# Altium schematic symbol library kmilo17pet-Maxim_Sensors.SchLib: 1172 symbols (part 25 of 61)
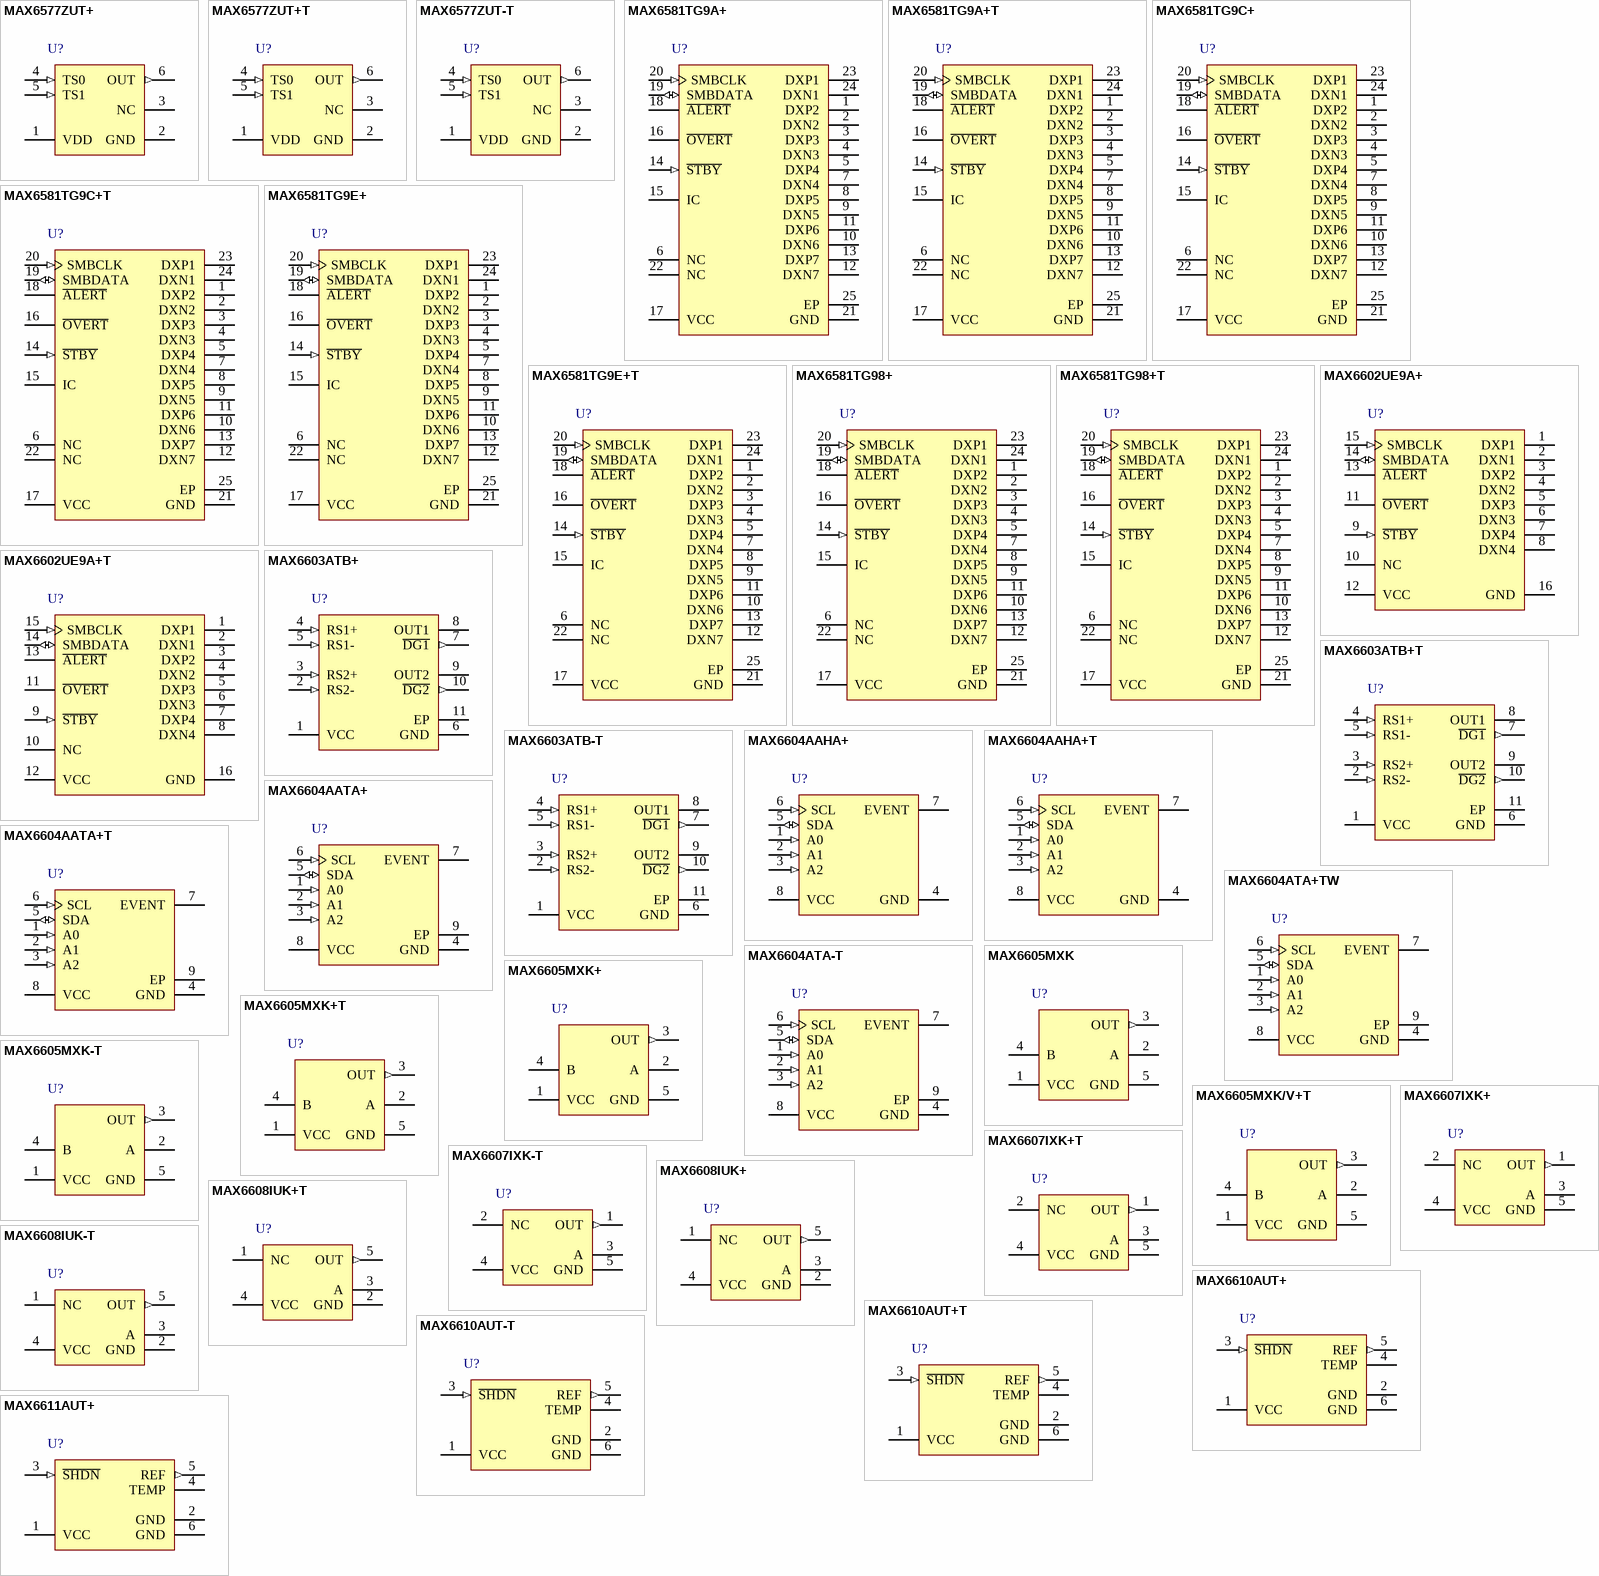
[diagram p57: symbols MAX6577ZUT+ to MAX6611AUT+]

## MAX6607IXK+T
designator U?
Low-Voltage Analog Temperature Sensor, -20 to 85 degC, 5-Pin SOT23 (X5+1), Pb-Free, Tape and Reel; Generic Part Number: MAX6607; PartNumber: MAX6607IXK+T; Parasite Pwr.: No; DatasheetVersion: Rev. 1; PackageVersion: Rev. F, 06/2011; PackageReference: X5+1; PackageDescription: 5-Pin SC70 Transistor Package (X5+1), Body 2 x 1.25 mm, Pitch 0.65 mm; Supplier 1: Digi-Key; Supplier Part Number 1: MAX6607IXK+T-ND; Supplier 2: Mouser; Supplier Part Number 2: 700-MAX6607IXKT; Interface: Analog; Packing: Tape and Reel; Mounting Technology: Surface Mount; Code_JEDEC: MO-203; ComponentLink1Description: Manufacturer URL; ComponentLink1URL: http://www.maximintegrated.com/; ComponentLink2Description: Datasheet; ComponentLink2URL: http://datasheets.maximintegrated.com/en/ds/MAX6607-MAX6608.pdf; ComponentLink3Description: Package Specification; ComponentLink3URL: http://pdfserv.maximintegrated.com/package_dwgs/21-0076.PDF
footprint MAXM-X5+1_N (SOT23, 5-Leads, Body 2x1.25mm, Pitch 0.65mm, IPC Medium Density)
footprint MAXM-X5+1_L (SOT23, 5-Leads, Body 2x1.25mm, Pitch 0.65mm, IPC High Density)
footprint MAXM-X5+1_M (SOT23, 5-Leads, Body 2x1.25mm, Pitch 0.65mm, IPC Low Density)
pins: 1 OUT (out) "Temperature Sensor Output", 2 NC "Not Connected", 3 A (power) "Must be connected to GND.", 4 VCC (power) "Supply Input. Decouple with a 0.1uF capacitor to GND.", 5 GND (power) "Ground"

## MAX6607IXK-T
designator U?
Low-Voltage Analog Temperature Sensor, -20 to 85 degC, 5-Pin SOT23 (X5-1), Tape and Reel; Generic Part Number: MAX6607; PartNumber: MAX6607IXK-T; Parasite Pwr.: No; DatasheetVersion: Rev. 1; PackageVersion: Rev. F, 06/2011; PackageReference: X5-1; PackageDescription: 5-Pin SC70 Transistor Package (X5-1), Body 2 x 1.25 mm, Pitch 0.65 mm; Supplier 1: Mouser; Supplier Part Number 1: N/A; Interface: Analog; Packing: Tape and Reel; Mounting Technology: Surface Mount; Code_JEDEC: MO-203; ComponentLink1Description: Manufacturer URL; ComponentLink1URL: http://www.maximintegrated.com/; ComponentLink2Description: Datasheet; ComponentLink2URL: http://datasheets.maximintegrated.com/en/ds/MAX6607-MAX6608.pdf; ComponentLink3Description: Package Specification; ComponentLink3URL: http://pdfserv.maximintegrated.com/package_dwgs/21-0076.PDF
footprint MAXM-X5-1_N (SOT23, 5-Leads, Body 2x1.25mm, Pitch 0.65mm, IPC Medium Density)
footprint MAXM-X5-1_L (SOT23, 5-Leads, Body 2x1.25mm, Pitch 0.65mm, IPC High Density)
footprint MAXM-X5-1_M (SOT23, 5-Leads, Body 2x1.25mm, Pitch 0.65mm, IPC Low Density)
pins: 1 OUT (out) "Temperature Sensor Output", 2 NC "Not Connected", 3 A (power) "Must be connected to GND.", 4 VCC (power) "Supply Input. Decouple with a 0.1uF capacitor to GND.", 5 GND (power) "Ground"

## MAX6608IUK+
designator U?
Low-Voltage Analog Temperature Sensor, -20 to 85 degC, 5-Pin SOT23 (U5+2), Pb-Free; Generic Part Number: MAX6608; PartNumber: MAX6608IUK+; Parasite Pwr.: No; DatasheetVersion: Rev. 1; PackageVersion: Rev. G, 04/2011; PackageReference: U5+2; PackageDescription: 5-Pin Small-Outline Transistor Package, Body 1.625 x 2.9 mm, Pitch 0.95 mm; Supplier 1: Mouser; Supplier Part Number 1: N/A; Interface: Analog; Mounting Technology: Surface Mount; Code_JEDEC: MO178; ComponentLink1Description: Manufacturer URL; ComponentLink1URL: http://www.maximintegrated.com/; ComponentLink2Description: Datasheet; ComponentLink2URL: http://datasheets.maximintegrated.com/en/ds/MAX6607-MAX6608.pdf; ComponentLink3Description: Package Specification; ComponentLink3URL: http://pdfserv.maximintegrated.com/package_dwgs/21-0057.PDF
footprint MAXM-U5+2_N (SOT23, 5-Leads, Body 2.9x1.625mm, Pitch 0.95mm, IPC Medium Density)
footprint MAXM-U5+2_L (SOT23, 5-Leads, Body 2.9x1.625mm, Pitch 0.95mm, IPC High Density)
footprint MAXM-U5+2_M (SOT23, 5-Leads, Body 2.9x1.625mm, Pitch 0.95mm, IPC Low Density)
pins: 1 NC "Not Connected", 2 GND (power) "Ground", 3 A (power) "Must be connected to GND.", 4 VCC (power) "Supply Input. Decouple with a 0.1uF capacitor to GND.", 5 OUT (out) "Temperature Sensor Output"

## MAX6608IUK+T
designator U?
Low-Voltage Analog Temperature Sensor, -20 to 85 degC, 5-Pin SOT23 (U5+2), Pb-Free, Tape and Reel; Generic Part Number: MAX6608; PartNumber: MAX6608IUK+T; Parasite Pwr.: No; DatasheetVersion: Rev. 1; PackageVersion: Rev. G, 04/2011; PackageReference: U5+2; PackageDescription: 5-Pin Small-Outline Transistor Package, Body 1.625 x 2.9 mm, Pitch 0.95 mm; Supplier 1: Digi-Key; Supplier Part Number 1: MAX6608IUK+T-ND; Supplier 2: Mouser; Supplier Part Number 2: 700-MAX6608IUKT; Interface: Analog; Packing: Tape and Reel; Mounting Technology: Surface Mount; Code_JEDEC: MO178; ComponentLink1Description: Manufacturer URL; ComponentLink1URL: http://www.maximintegrated.com/; ComponentLink2Description: Datasheet; ComponentLink2URL: http://datasheets.maximintegrated.com/en/ds/MAX6607-MAX6608.pdf; ComponentLink3Description: Package Specification; ComponentLink3URL: http://pdfserv.maximintegrated.com/package_dwgs/21-0057.PDF
footprint MAXM-U5+2_N (SOT23, 5-Leads, Body 2.9x1.625mm, Pitch 0.95mm, IPC Medium Density)
footprint MAXM-U5+2_L (SOT23, 5-Leads, Body 2.9x1.625mm, Pitch 0.95mm, IPC High Density)
footprint MAXM-U5+2_M (SOT23, 5-Leads, Body 2.9x1.625mm, Pitch 0.95mm, IPC Low Density)
pins: 1 NC "Not Connected", 2 GND (power) "Ground", 3 A (power) "Must be connected to GND.", 4 VCC (power) "Supply Input. Decouple with a 0.1uF capacitor to GND.", 5 OUT (out) "Temperature Sensor Output"

## MAX6608IUK-T
designator U?
Low-Voltage Analog Temperature Sensor, -20 to 85 degC, 5-Pin SOT23 (U5-2), Tape and Reel; Generic Part Number: MAX6608; PartNumber: MAX6608IUK-T; Parasite Pwr.: No; DatasheetVersion: Rev. 1; PackageVersion: Rev. G, 04/2011; PackageReference: U5-2; PackageDescription: 5-Pin Small-Outline Transistor Package, Body 1.625 x 2.9 mm, Pitch 0.95 mm; Supplier 1: Mouser; Supplier Part Number 1: N/A; Interface: Analog; Packing: Tape and Reel; Mounting Technology: Surface Mount; Code_JEDEC: MO-178; ComponentLink1Description: Manufacturer URL; ComponentLink1URL: http://www.maximintegrated.com/; ComponentLink2Description: Datasheet; ComponentLink2URL: http://datasheets.maximintegrated.com/en/ds/MAX6607-MAX6608.pdf; ComponentLink3Description: Package Specification; ComponentLink3URL: http://pdfserv.maximintegrated.com/package_dwgs/21-0057.PDF
footprint MAXM-U5-2_N (SOT23, 5-Leads, Body 2.9x1.625mm, Pitch 0.95mm, IPC Medium Density)
footprint MAXM-U5-2_L (SOT23, 5-Leads, Body 2.9x1.625mm, Pitch 0.95mm, IPC High Density)
footprint MAXM-U5-2_M (SOT23, 5-Leads, Body 2.9x1.625mm, Pitch 0.95mm, IPC Low Density)
pins: 1 NC "Not Connected", 2 GND (power) "Ground", 3 A (power) "Must be connected to GND.", 4 VCC (power) "Supply Input. Decouple with a 0.1uF capacitor to GND.", 5 OUT (out) "Temperature Sensor Output"

## MAX6610AUT+
designator U?
Precision, Low-Power, Temperature Sensor and Voltage Reference, -40 to 125 degC, 6-Pin SOT23 (U6+4), Pb-Free; Generic Part Number: MAX6610; PartNumber: MAX6610AUT+; Interface: Analog; Parasite Pwr.: No; DatasheetVersion: Rev. 2; PackageVersion: Rev. N, 08/2012; PackageReference: U6+4; PackageDescription: 6-Pin Small-Outline Transistor Package, Body 1.625 x 2.9 mm, Pitch 0.95 mm; Supplier 1: Mouser; Supplier Part Number 1: N/A; Functions: Voltage Reference; Mounting Technology: Surface Mount; Code_JEDEC: MO-178; ComponentLink1Description: Manufacturer URL; ComponentLink1URL: http://www.maximintegrated.com/; ComponentLink2Description: Datasheet; ComponentLink2URL: http://datasheets.maximintegrated.com/en/ds/MAX6610-MAX6611.pdf; ComponentLink3Description: Package Specification; ComponentLink3URL: http://pdfserv.maximintegrated.com/package_dwgs/21-0058.PDF
footprint MAXM-U6+4_N (SOT23, 6-Leads, Body 2.9x1.625mm, Pitch 0.95mm, IPC Medium Density)
footprint MAXM-U6+4_L (SOT23, 6-Leads, Body 2.9x1.625mm, Pitch 0.95mm, IPC High Density)
footprint MAXM-U6+4_M (SOT23, 6-Leads, Body 2.9x1.625mm, Pitch 0.95mm, IPC Low Density)
pins: 1 VCC (power) "Supply Voltage Input. Bypass to GND with a 0.1uF capacitor.", 2 GND (power) "Ground", 3 ~{SHDN} (in) "Logic Level Shutdown Input (Active Low). Driving S\H\D\N\ with a logic low turns off internal circuitry to reduce supply current to 1uA (max).", 4 TEMP (hiz) "Temperature Output Pin. Voltage at TEMP varies linearly with temperature", 5 REF (out) "Reference Voltage Output", 6 GND (power) "Must be connected to pin 2."

## MAX6610AUT+T
designator U?
Precision, Low-Power, Temperature Sensor and Voltage Reference, -40 to 125 degC, 6-Pin SOT23 (U6+4), Pb-Free, Tape and Reel; Generic Part Number: MAX6610; PartNumber: MAX6610AUT+T; Interface: Analog; Parasite Pwr.: No; DatasheetVersion: Rev. 2; PackageVersion: Rev. N, 08/2012; PackageReference: U6+4; PackageDescription: 6-Pin Small-Outline Transistor Package, Body 1.625 x 2.9 mm, Pitch 0.95 mm; Supplier 1: Digi-Key; Supplier Part Number 1: MAX6610AUT+TTR-ND; Supplier 2: Digi-Key; Supplier Part Number 2: MAX6610AUT+TCT-ND; Supplier 3: Digi-Key; Supplier Part Number 3: MAX6610AUT+TDKR-ND; Supplier 4: Farnell; Supplier Part Number 4: 1569959; Supplier 5: Newark; Supplier Part Number 5: 26R6557; Supplier 6: Mouser; Supplier Part Number 6: 700-MAX6610AUTT; Functions: Voltage Reference; Packing: Tape and Reel; Mounting Technology: Surface Mount; Code_JEDEC: MO-178; ComponentLink1Description: Manufacturer URL; ComponentLink1URL: http://www.maximintegrated.com/; ComponentLink2Description: Datasheet; ComponentLink2URL: http://datasheets.maximintegrated.com/en/ds/MAX6610-MAX6611.pdf; ComponentLink3Description: Package Specification; ComponentLink3URL: http://pdfserv.maximintegrated.com/package_dwgs/21-0058.PDF
footprint MAXM-U6+4_N (SOT23, 6-Leads, Body 2.9x1.625mm, Pitch 0.95mm, IPC Medium Density)
footprint MAXM-U6+4_L (SOT23, 6-Leads, Body 2.9x1.625mm, Pitch 0.95mm, IPC High Density)
footprint MAXM-U6+4_M (SOT23, 6-Leads, Body 2.9x1.625mm, Pitch 0.95mm, IPC Low Density)
pins: 1 VCC (power) "Supply Voltage Input. Bypass to GND with a 0.1uF capacitor.", 2 GND (power) "Ground", 3 ~{SHDN} (in) "Logic Level Shutdown Input (Active Low). Driving S\H\D\N\ with a logic low turns off internal circuitry to reduce supply current to 1uA (max).", 4 TEMP (hiz) "Temperature Output Pin. Voltage at TEMP varies linearly with temperature", 5 REF (out) "Reference Voltage Output", 6 GND (power) "Must be connected to pin 2."

## MAX6610AUT-T
designator U?
Precision, Low-Power, Temperature Sensor and Voltage Reference, -40 to 125 degC, 6-Pin SOT23 (U6-4), Tape and Reel; Generic Part Number: MAX6610; PartNumber: MAX6610AUT-T; Interface: Analog; Parasite Pwr.: No; DatasheetVersion: Rev. 2; PackageVersion: Rev. N, 08/2012; PackageReference: U6-4; PackageDescription: 6-Pin Small-Outline Transistor Package, Body 1.625 x 2.9 mm, Pitch 0.95 mm; Supplier 1: Mouser; Supplier Part Number 1: N/A; Functions: Voltage Reference; Packing: Tape and Reel; Mounting Technology: Surface Mount; Code_JEDEC: MO-178; ComponentLink1Description: Manufacturer URL; ComponentLink1URL: http://www.maximintegrated.com/; ComponentLink2Description: Datasheet; ComponentLink2URL: http://datasheets.maximintegrated.com/en/ds/MAX6610-MAX6611.pdf; ComponentLink3Description: Package Specification; ComponentLink3URL: http://pdfserv.maximintegrated.com/package_dwgs/21-0058.PDF
footprint MAXM-U6-4_N (SOT23, 6-Leads, Body 2.9x1.625mm, Pitch 0.95mm, IPC Medium Density)
footprint MAXM-U6-4_L (SOT23, 6-Leads, Body 2.9x1.625mm, Pitch 0.95mm, IPC High Density)
footprint MAXM-U6-4_M (SOT23, 6-Leads, Body 2.9x1.625mm, Pitch 0.95mm, IPC Low Density)
pins: 1 VCC (power) "Supply Voltage Input. Bypass to GND with a 0.1uF capacitor.", 2 GND (power) "Ground", 3 ~{SHDN} (in) "Logic Level Shutdown Input (Active Low). Driving S\H\D\N\ with a logic low turns off internal circuitry to reduce supply current to 1uA (max).", 4 TEMP (hiz) "Temperature Output Pin. Voltage at TEMP varies linearly with temperature", 5 REF (out) "Reference Voltage Output", 6 GND (power) "Must be connected to pin 2."

## MAX6611AUT+
designator U?
Precision, Low-Power, Temperature Sensor and Voltage Reference, -40 to 125 degC, 6-Pin SOT23 (U6+4), Pb-Free; Generic Part Number: MAX6611; PartNumber: MAX6611AUT+; Interface: Analog; Parasite Pwr.: No; DatasheetVersion: Rev. 2; PackageVersion: Rev. N, 08/2012; PackageReference: U6+4; PackageDescription: 6-Pin Small-Outline Transistor Package, Body 1.625 x 2.9 mm, Pitch 0.95 mm; Supplier 1: Mouser; Supplier Part Number 1: N/A; Functions: Voltage Reference; Mounting Technology: Surface Mount; Code_JEDEC: MO-178; ComponentLink1Description: Manufacturer URL; ComponentLink1URL: http://www.maximintegrated.com/; ComponentLink2Description: Datasheet; ComponentLink2URL: http://datasheets.maximintegrated.com/en/ds/MAX6610-MAX6611.pdf; ComponentLink3Description: Package Specification; ComponentLink3URL: http://pdfserv.maximintegrated.com/package_dwgs/21-0058.PDF
footprint MAXM-U6+4_N (SOT23, 6-Leads, Body 2.9x1.625mm, Pitch 0.95mm, IPC Medium Density)
footprint MAXM-U6+4_L (SOT23, 6-Leads, Body 2.9x1.625mm, Pitch 0.95mm, IPC High Density)
footprint MAXM-U6+4_M (SOT23, 6-Leads, Body 2.9x1.625mm, Pitch 0.95mm, IPC Low Density)
pins: 1 VCC (power) "Supply Voltage Input. Bypass to GND with a 0.1uF capacitor.", 2 GND (power) "Ground", 3 ~{SHDN} (in) "Logic Level Shutdown Input (Active Low). Driving S\H\D\N\ with a logic low turns off internal circuitry to reduce supply current to 1uA (max).", 4 TEMP (hiz) "Temperature Output Pin. Voltage at TEMP varies linearly with temperature", 5 REF (out) "Reference Voltage Output", 6 GND (power) "Must be connected to pin 2."

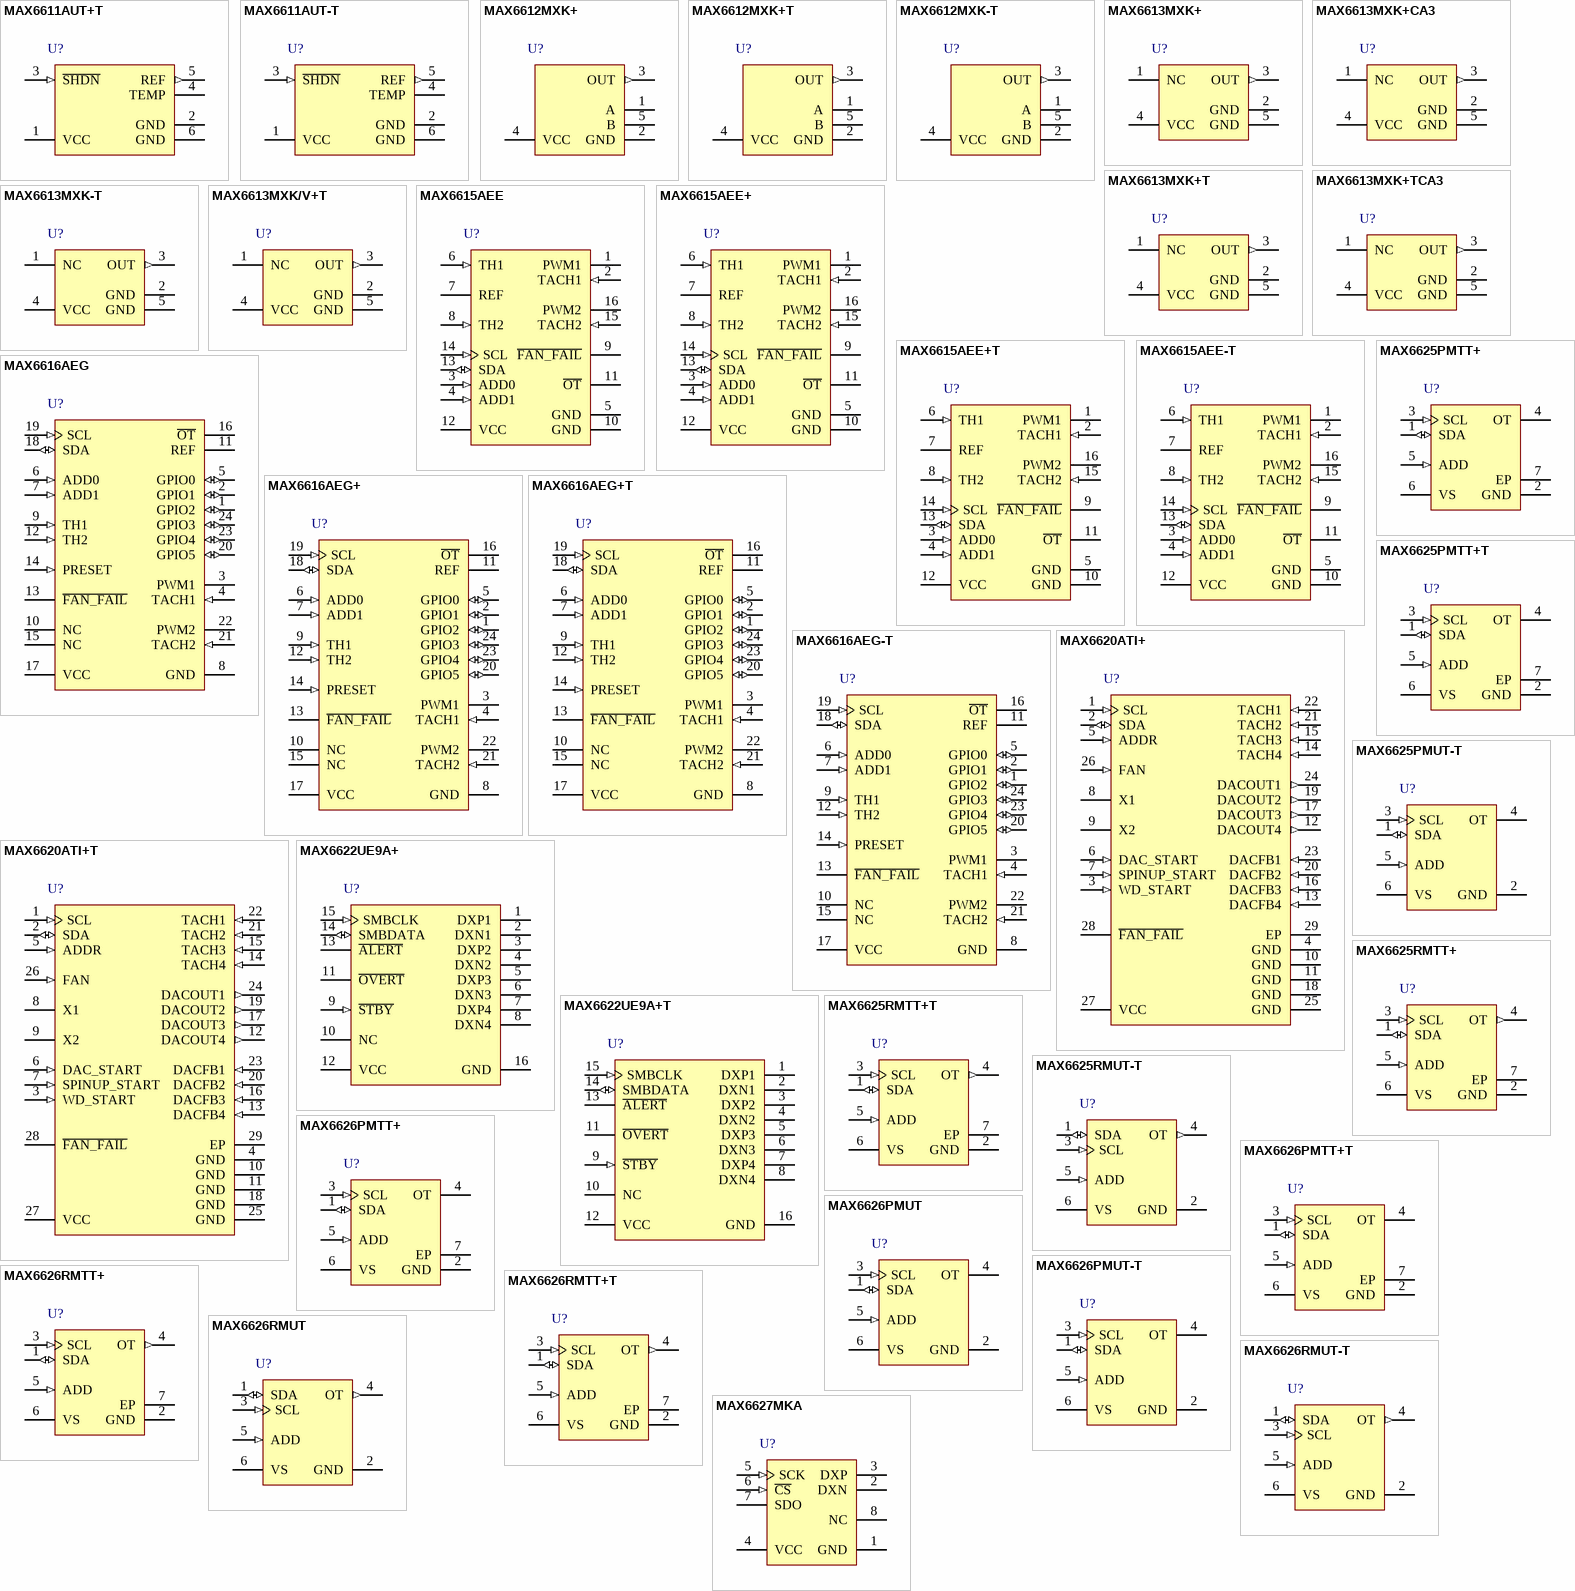
[diagram p15: symbols MAX6611AUT+T to MAX6627MKA]

## MAX6611AUT+T
designator U?
Precision, Low-Power, Temperature Sensor and Voltage Reference, -40 to 125 degC, 6-Pin SOT23 (U6+4), Pb-Free, Tape and Reel; Generic Part Number: MAX6611; PartNumber: MAX6611AUT+T; Interface: Analog; Parasite Pwr.: No; DatasheetVersion: Rev. 2; PackageVersion: Rev. N, 08/2012; PackageReference: U6+4; PackageDescription: 6-Pin Small-Outline Transistor Package, Body 1.625 x 2.9 mm, Pitch 0.95 mm; Supplier 1: Digi-Key; Supplier Part Number 1: MAX6611AUT+T-ND; Supplier 2: Mouser; Supplier Part Number 2: 700-MAX6611AUTT; Functions: Voltage Reference; Packing: Tape and Reel; Mounting Technology: Surface Mount; Code_JEDEC: MO-178; ComponentLink1Description: Manufacturer URL; ComponentLink1URL: http://www.maximintegrated.com/; ComponentLink2Description: Datasheet; ComponentLink2URL: http://datasheets.maximintegrated.com/en/ds/MAX6610-MAX6611.pdf; ComponentLink3Description: Package Specification; ComponentLink3URL: http://pdfserv.maximintegrated.com/package_dwgs/21-0058.PDF
footprint MAXM-U6+4_N (SOT23, 6-Leads, Body 2.9x1.625mm, Pitch 0.95mm, IPC Medium Density)
footprint MAXM-U6+4_L (SOT23, 6-Leads, Body 2.9x1.625mm, Pitch 0.95mm, IPC High Density)
footprint MAXM-U6+4_M (SOT23, 6-Leads, Body 2.9x1.625mm, Pitch 0.95mm, IPC Low Density)
pins: 1 VCC (power) "Supply Voltage Input. Bypass to GND with a 0.1uF capacitor.", 2 GND (power) "Ground", 3 ~{SHDN} (in) "Logic Level Shutdown Input (Active Low). Driving S\H\D\N\ with a logic low turns off internal circuitry to reduce supply current to 1uA (max).", 4 TEMP (hiz) "Temperature Output Pin. Voltage at TEMP varies linearly with temperature", 5 REF (out) "Reference Voltage Output", 6 GND (power) "Must be connected to pin 2."

## MAX6611AUT-T
designator U?
Precision, Low-Power, Temperature Sensor and Voltage Reference, -40 to 125 degC, 6-Pin SOT23 (U6-4), Tape and Reel; Generic Part Number: MAX6611; PartNumber: MAX6611AUT-T; Interface: Analog; Parasite Pwr.: No; DatasheetVersion: Rev. 2; PackageVersion: Rev. N, 08/2012; PackageReference: U6-4; PackageDescription: 6-Pin Small-Outline Transistor Package, Body 1.625 x 2.9 mm, Pitch 0.95 mm; Supplier 1: Mouser; Supplier Part Number 1: N/A; Functions: Voltage Reference; Packing: Tape and Reel; Mounting Technology: Surface Mount; Code_JEDEC: MO-178; ComponentLink1Description: Manufacturer URL; ComponentLink1URL: http://www.maximintegrated.com/; ComponentLink2Description: Datasheet; ComponentLink2URL: http://datasheets.maximintegrated.com/en/ds/MAX6610-MAX6611.pdf; ComponentLink3Description: Package Specification; ComponentLink3URL: http://pdfserv.maximintegrated.com/package_dwgs/21-0058.PDF
footprint MAXM-U6-4_N (SOT23, 6-Leads, Body 2.9x1.625mm, Pitch 0.95mm, IPC Medium Density)
footprint MAXM-U6-4_L (SOT23, 6-Leads, Body 2.9x1.625mm, Pitch 0.95mm, IPC High Density)
footprint MAXM-U6-4_M (SOT23, 6-Leads, Body 2.9x1.625mm, Pitch 0.95mm, IPC Low Density)
pins: 1 VCC (power) "Supply Voltage Input. Bypass to GND with a 0.1uF capacitor.", 2 GND (power) "Ground", 3 ~{SHDN} (in) "Logic Level Shutdown Input (Active Low). Driving S\H\D\N\ with a logic low turns off internal circuitry to reduce supply current to 1uA (max).", 4 TEMP (hiz) "Temperature Output Pin. Voltage at TEMP varies linearly with temperature", 5 REF (out) "Reference Voltage Output", 6 GND (power) "Must be connected to pin 2."

## MAX6612MXK+
designator U?
High-Slope, Low-Power, Analog Temperature Sensor, -55 to 150 degC, 5-Pin SOT23 (X5+1), Pb-Free; Generic Part Number: MAX6612; PartNumber: MAX6612MXK+; Parasite Pwr.: No; DatasheetVersion: Rev. 0; PackageVersion: Rev. F, 06/2011; PackageReference: X5+1; PackageDescription: 5-Pin SC70 Transistor Package (X5+1), Body 2 x 1.25 mm, Pitch 0.65 mm; Supplier 1: Farnell; Supplier Part Number 1: 1569962; Supplier 2: Newark; Supplier Part Number 2: 26R6558; Supplier 3: Mouser; Supplier Part Number 3: N/A; Interface: Analog; Mounting Technology: Surface Mount; Code_JEDEC: MO-203; ComponentLink1Description: Manufacturer URL; ComponentLink1URL: http://www.maximintegrated.com/; ComponentLink2Description: Datasheet; ComponentLink2URL: http://datasheets.maximintegrated.com/en/ds/MAX6612-MAX6612MXK.pdf; ComponentLink3Description: Package Specification; ComponentLink3URL: http://pdfserv.maximintegrated.com/package_dwgs/21-0076.PDF
footprint MAXM-X5+1_N (SOT23, 5-Leads, Body 2x1.25mm, Pitch 0.65mm, IPC Medium Density)
footprint MAXM-X5+1_L (SOT23, 5-Leads, Body 2x1.25mm, Pitch 0.65mm, IPC High Density)
footprint MAXM-X5+1_M (SOT23, 5-Leads, Body 2x1.25mm, Pitch 0.65mm, IPC Low Density)
pins: 1 A (power) "Must be connected to GND", 2 GND (power), 3 OUT (out) "Temperature Sensor Output. Connect a capacitor (at least 1000pF) from this pin to GND.", 4 VCC (power) "Power-Supply Input. Bypass VCC to GND with a 0.1uF ceramic capacitor", 5 B (power) "Must be connected to GND"

## MAX6612MXK+T
designator U?
High-Slope, Low-Power, Analog Temperature Sensor, -55 to 150 degC, 5-Pin SOT23 (X5+1), Pb-Free, Tape and Reel; Generic Part Number: MAX6612; PartNumber: MAX6612MXK+T; Parasite Pwr.: No; DatasheetVersion: Rev. 0; PackageVersion: Rev. F, 06/2011; PackageReference: X5+1; PackageDescription: 5-Pin SC70 Transistor Package (X5+1), Body 2 x 1.25 mm, Pitch 0.65 mm; Supplier 1: Digi-Key; Supplier Part Number 1: MAX6612MXK+TTR-ND; Supplier 2: Digi-Key; Supplier Part Number 2: MAX6612MXK+TCT-ND; Supplier 3: Digi-Key; Supplier Part Number 3: MAX6612MXK+TDKR-ND; Supplier 4: Farnell; Supplier Part Number 4: 2071470; Supplier 5: Newark; Supplier Part Number 5: 43K3770; Supplier 6: Mouser; Supplier Part Number 6: 700-MAX6612MXKT; Interface: Analog; Packing: Tape and Reel; Mounting Technology: Surface Mount; Code_JEDEC: MO-203; ComponentLink1Description: Manufacturer URL; ComponentLink1URL: http://www.maximintegrated.com/; ComponentLink2Description: Datasheet; ComponentLink2URL: http://datasheets.maximintegrated.com/en/ds/MAX6612-MAX6612MXK.pdf; ComponentLink3Description: Package Specification; ComponentLink3URL: http://pdfserv.maximintegrated.com/package_dwgs/21-0076.PDF
footprint MAXM-X5+1_N (SOT23, 5-Leads, Body 2x1.25mm, Pitch 0.65mm, IPC Medium Density)
footprint MAXM-X5+1_L (SOT23, 5-Leads, Body 2x1.25mm, Pitch 0.65mm, IPC High Density)
footprint MAXM-X5+1_M (SOT23, 5-Leads, Body 2x1.25mm, Pitch 0.65mm, IPC Low Density)
pins: 1 A (power) "Must be connected to GND", 2 GND (power), 3 OUT (out) "Temperature Sensor Output. Connect a capacitor (at least 1000pF) from this pin to GND.", 4 VCC (power) "Power-Supply Input. Bypass VCC to GND with a 0.1uF ceramic capacitor", 5 B (power) "Must be connected to GND"

## MAX6612MXK-T
designator U?
High-Slope, Low-Power, Analog Temperature Sensor, -55 to 150 degC, 5-Pin SOT23 (X5-1), Tape and Reel; Generic Part Number: MAX6612; PartNumber: MAX6612MXK-T; Parasite Pwr.: No; DatasheetVersion: Rev. 0; PackageVersion: Rev. F, 06/2011; PackageReference: X5-1; PackageDescription: 5-Pin SC70 Transistor Package (X5-1), Body 2 x 1.25 mm, Pitch 0.65 mm; Supplier 1: Mouser; Supplier Part Number 1: N/A; Interface: Analog; Packing: Tape and Reel; Mounting Technology: Surface Mount; Code_JEDEC: MO-203; ComponentLink1Description: Manufacturer URL; ComponentLink1URL: http://www.maximintegrated.com/; ComponentLink2Description: Datasheet; ComponentLink2URL: http://datasheets.maximintegrated.com/en/ds/MAX6612-MAX6612MXK.pdf; ComponentLink3Description: Package Specification; ComponentLink3URL: http://pdfserv.maximintegrated.com/package_dwgs/21-0076.PDF
footprint MAXM-X5-1_N (SOT23, 5-Leads, Body 2x1.25mm, Pitch 0.65mm, IPC Medium Density)
footprint MAXM-X5-1_L (SOT23, 5-Leads, Body 2x1.25mm, Pitch 0.65mm, IPC High Density)
footprint MAXM-X5-1_M (SOT23, 5-Leads, Body 2x1.25mm, Pitch 0.65mm, IPC Low Density)
pins: 1 A (power) "Must be connected to GND", 2 GND (power), 3 OUT (out) "Temperature Sensor Output. Connect a capacitor (at least 1000pF) from this pin to GND.", 4 VCC (power) "Power-Supply Input. Bypass VCC to GND with a 0.1uF ceramic capacitor", 5 B (power) "Must be connected to GND"

## MAX6613MXK+
designator U?
Low-Voltage Analog Temperature Sensors, -55 to 130 degC, 5-Pin SOT23 (X5+1), Pb-Free; Generic Part Number: MAX6613; PartNumber: MAX6613MXK+; Parasite Pwr.: No; DatasheetVersion: Rev. 3; PackageVersion: Rev. F, 06/2011; PackageReference: X5+1; PackageDescription: 5-Pin SC70 Transistor Package (X5+1), Body 2 x 1.25 mm, Pitch 0.65 mm; Supplier 1: Mouser; Supplier Part Number 1: N/A; Interface: Analog; Mounting Technology: Surface Mount; Code_JEDEC: MO-203; ComponentLink1Description: Manufacturer URL; ComponentLink1URL: http://www.maximintegrated.com/; ComponentLink2Description: Datasheet; ComponentLink2URL: http://datasheets.maximintegrated.com/en/ds/MAX6613.pdf; ComponentLink3Description: Package Specification; ComponentLink3URL: http://pdfserv.maximintegrated.com/package_dwgs/21-0076.PDF
footprint MAXM-X5+1_N (SOT23, 5-Leads, Body 2x1.25mm, Pitch 0.65mm, IPC Medium Density)
footprint MAXM-X5+1_L (SOT23, 5-Leads, Body 2x1.25mm, Pitch 0.65mm, IPC High Density)
footprint MAXM-X5+1_M (SOT23, 5-Leads, Body 2x1.25mm, Pitch 0.65mm, IPC Low Density)
pins: 1 NC "No Connection. Must be connected to ground or left unconnected.", 2 GND (power) "Ground. Should be connected to pin 5. May be left unconnected, if desired.", 3 OUT (out) "Voltage Output", 4 VCC (power) "Supply Voltage. Bypass to GND with a 0.1uF capacitor.", 5 GND (power) "Ground"

## MAX6613MXK+CA3
designator U?
Low-Voltage Analog Temperature Sensors, -55 to 130 degC, 5-Pin SOT23 (X5+1), Pb-Free; Generic Part Number: MAX6613; PartNumber: MAX6613MXK+CA3; Parasite Pwr.: No; DatasheetVersion: Rev. 3; PackageVersion: Rev. F, 06/2011; PackageReference: X5+1; PackageDescription: 5-Pin SC70 Transistor Package (X5+1), Body 2 x 1.25 mm, Pitch 0.65 mm; Supplier 1: Mouser; Supplier Part Number 1: N/A; Interface: Analog; Mounting Technology: Surface Mount; Code_JEDEC: MO-203; ComponentLink1Description: Manufacturer URL; ComponentLink1URL: http://www.maximintegrated.com/; ComponentLink2Description: Datasheet; ComponentLink2URL: http://datasheets.maximintegrated.com/en/ds/MAX6613.pdf; ComponentLink3Description: Package Specification; ComponentLink3URL: http://pdfserv.maximintegrated.com/package_dwgs/21-0076.PDF
footprint MAXM-X5+1_N (SOT23, 5-Leads, Body 2x1.25mm, Pitch 0.65mm, IPC Medium Density)
footprint MAXM-X5+1_L (SOT23, 5-Leads, Body 2x1.25mm, Pitch 0.65mm, IPC High Density)
footprint MAXM-X5+1_M (SOT23, 5-Leads, Body 2x1.25mm, Pitch 0.65mm, IPC Low Density)
pins: 1 NC "No Connection. Must be connected to ground or left unconnected.", 2 GND (power) "Ground. Should be connected to pin 5. May be left unconnected, if desired.", 3 OUT (out) "Voltage Output", 4 VCC (power) "Supply Voltage. Bypass to GND with a 0.1uF capacitor.", 5 GND (power) "Ground"

## MAX6613MXK+T
designator U?
Low-Voltage Analog Temperature Sensors, -55 to 130 degC, 5-Pin SOT23 (X5+1), Pb-Free, Tape and Reel; Generic Part Number: MAX6613; PartNumber: MAX6613MXK+T; Parasite Pwr.: No; DatasheetVersion: Rev. 3; PackageVersion: Rev. F, 06/2011; PackageReference: X5+1; PackageDescription: 5-Pin SC70 Transistor Package (X5+1), Body 2 x 1.25 mm, Pitch 0.65 mm; Supplier 1: Digi-Key; Supplier Part Number 1: MAX6613MXK+TTR-ND; Supplier 2: Digi-Key; Supplier Part Number 2: MAX6613MXK+TCT-ND; Supplier 3: Digi-Key; Supplier Part Number 3: MAX6613MXK+TDKR-ND; Supplier 4: Mouser; Supplier Part Number 4: 700-MAX6613MXKT; Interface: Analog; Packing: Tape and Reel; Mounting Technology: Surface Mount; Code_JEDEC: MO-203; ComponentLink1Description: Manufacturer URL; ComponentLink1URL: http://www.maximintegrated.com/; ComponentLink2Description: Datasheet; ComponentLink2URL: http://datasheets.maximintegrated.com/en/ds/MAX6613.pdf; ComponentLink3Description: Package Specification; ComponentLink3URL: http://pdfserv.maximintegrated.com/package_dwgs/21-0076.PDF
footprint MAXM-X5+1_N (SOT23, 5-Leads, Body 2x1.25mm, Pitch 0.65mm, IPC Medium Density)
footprint MAXM-X5+1_L (SOT23, 5-Leads, Body 2x1.25mm, Pitch 0.65mm, IPC High Density)
footprint MAXM-X5+1_M (SOT23, 5-Leads, Body 2x1.25mm, Pitch 0.65mm, IPC Low Density)
pins: 1 NC "No Connection. Must be connected to ground or left unconnected.", 2 GND (power) "Ground. Should be connected to pin 5. May be left unconnected, if desired.", 3 OUT (out) "Voltage Output", 4 VCC (power) "Supply Voltage. Bypass to GND with a 0.1uF capacitor.", 5 GND (power) "Ground"

## MAX6613MXK+TCA3
designator U?
Low-Voltage Analog Temperature Sensors, -55 to 130 degC, 5-Pin SOT23 (X5+1), Pb-Free; Generic Part Number: MAX6613; PartNumber: MAX6613MXK+TCA3; Parasite Pwr.: No; DatasheetVersion: Rev. 3; PackageVersion: Rev. F, 06/2011; PackageReference: X5+1; PackageDescription: 5-Pin SC70 Transistor Package (X5+1), Body 2 x 1.25 mm, Pitch 0.65 mm; Supplier 1: Digi-Key; Supplier Part Number 1: MAX6613MXK+TCA3-ND; Supplier 2: Mouser; Supplier Part Number 2: 700-MAX6613MXK+TCA3; Interface: Analog; Mounting Technology: Surface Mount; Code_JEDEC: MO-203; ComponentLink1Description: Manufacturer URL; ComponentLink1URL: http://www.maximintegrated.com/; ComponentLink2Description: Datasheet; ComponentLink2URL: http://datasheets.maximintegrated.com/en/ds/MAX6613.pdf; ComponentLink3Description: Package Specification; ComponentLink3URL: http://pdfserv.maximintegrated.com/package_dwgs/21-0076.PDF
footprint MAXM-X5+1_N (SOT23, 5-Leads, Body 2x1.25mm, Pitch 0.65mm, IPC Medium Density)
footprint MAXM-X5+1_L (SOT23, 5-Leads, Body 2x1.25mm, Pitch 0.65mm, IPC High Density)
footprint MAXM-X5+1_M (SOT23, 5-Leads, Body 2x1.25mm, Pitch 0.65mm, IPC Low Density)
pins: 1 NC "No Connection. Must be connected to ground or left unconnected.", 2 GND (power) "Ground. Should be connected to pin 5. May be left unconnected, if desired.", 3 OUT (out) "Voltage Output", 4 VCC (power) "Supply Voltage. Bypass to GND with a 0.1uF capacitor.", 5 GND (power) "Ground"

## MAX6613MXK-T
designator U?
Low-Voltage Analog Temperature Sensors, -55 to 130 degC, 5-Pin SOT23 (X5-1), , Tape and Reel; Generic Part Number: MAX6613; PartNumber: MAX6613MXK-T; Parasite Pwr.: No; DatasheetVersion: Rev. 3; PackageVersion: Rev. F, 06/2011; PackageReference: X5-1; PackageDescription: 5-Pin SC70 Transistor Package (X5-1), Body 2 x 1.25 mm, Pitch 0.65 mm; Supplier 1: Mouser; Supplier Part Number 1: N/A; Interface: Analog; Packing: Tape and Reel; Mounting Technology: Surface Mount; Code_JEDEC: MO-203; ComponentLink1Description: Manufacturer URL; ComponentLink1URL: http://www.maximintegrated.com/; ComponentLink2Description: Datasheet; ComponentLink2URL: http://datasheets.maximintegrated.com/en/ds/MAX6613.pdf; ComponentLink3Description: Package Specification; ComponentLink3URL: http://pdfserv.maximintegrated.com/package_dwgs/21-0076.PDF
footprint MAXM-X5-1_N (SOT23, 5-Leads, Body 2x1.25mm, Pitch 0.65mm, IPC Medium Density)
footprint MAXM-X5-1_L (SOT23, 5-Leads, Body 2x1.25mm, Pitch 0.65mm, IPC High Density)
footprint MAXM-X5-1_M (SOT23, 5-Leads, Body 2x1.25mm, Pitch 0.65mm, IPC Low Density)
pins: 1 NC "No Connection. Must be connected to ground or left unconnected.", 2 GND (power) "Ground. Should be connected to pin 5. May be left unconnected, if desired.", 3 OUT (out) "Voltage Output", 4 VCC (power) "Supply Voltage. Bypass to GND with a 0.1uF capacitor.", 5 GND (power) "Ground"

## MAX6613MXK/V+T
designator U?
Low-Voltage Analog Temperature Sensors, -55 to 130 degC, 5-Pin SOT23 (X5+1), Pb-Free, Tape and Reel; Generic Part Number: MAX6613; PartNumber: MAX6613MXK/V+T; Parasite Pwr.: No; DatasheetVersion: Rev. 3; PackageVersion: Rev. F, 06/2011; PackageReference: X5+1; PackageDescription: 5-Pin SC70 Transistor Package (X5+1), Body 2 x 1.25 mm, Pitch 0.65 mm; Supplier 1: Digi-Key; Supplier Part Number 1: MAX6613MXK/V+T-ND; Supplier 2: Mouser; Supplier Part Number 2: 700-MAX6613MXK/V+T; Interface: Analog; Packing: Tape and Reel; Mounting Technology: Surface Mount; Code_JEDEC: MO-203; ComponentLink1Description: Manufacturer URL; ComponentLink1URL: http://www.maximintegrated.com/; ComponentLink2Description: Datasheet; ComponentLink2URL: http://datasheets.maximintegrated.com/en/ds/MAX6613.pdf; ComponentLink3Description: Package Specification; ComponentLink3URL: http://pdfserv.maximintegrated.com/package_dwgs/21-0076.PDF
footprint MAXM-X5+1_N (SOT23, 5-Leads, Body 2x1.25mm, Pitch 0.65mm, IPC Medium Density)
footprint MAXM-X5+1_L (SOT23, 5-Leads, Body 2x1.25mm, Pitch 0.65mm, IPC High Density)
footprint MAXM-X5+1_M (SOT23, 5-Leads, Body 2x1.25mm, Pitch 0.65mm, IPC Low Density)
pins: 1 NC "No Connection. Must be connected to ground or left unconnected.", 2 GND (power) "Ground. Should be connected to pin 5. May be left unconnected, if desired.", 3 OUT (out) "Voltage Output", 4 VCC (power) "Supply Voltage. Bypass to GND with a 0.1uF capacitor.", 5 GND (power) "Ground"

## MAX6615AEE
designator U?
Dual-Channel Temperature Monitors and Fan-Speed Controller with Thermistor Inputs, -40 to 125 degC, 16-Pin SOP (E16-1),; Generic Part Number: MAX6615; PartNumber: MAX6615AEE; Fan Cntrl.: PWM; Fan Controller Functions: Fan Failure Detector; Interface: 2-Wire/I2C/SMBus; DatasheetVersion: Rev. 2; PackageVersion: Rev. K, 04/2012; PackageReference: E16-1; PackageDescription: 16-Pin Quarter Small-Outline Package (E16-1), Body 4.90 x 3.89 mm, Pitch 0.635 mm; Supplier 1: Mouser; Supplier Part Number 1: N/A; Mounting Technology: Surface Mount; Code_JEDEC: MO137; ComponentLink1Description: Manufacturer URL; ComponentLink1URL: http://www.maximintegrated.com/; ComponentLink2Description: Datasheet; ComponentLink2URL: http://datasheets.maximintegrated.com/en/ds/MAX6615-MAX6616.pdf; ComponentLink3Description: Package Specification; ComponentLink3URL: http://pdfserv.maximintegrated.com/package_dwgs/21-0055.PDF
footprint MAXM-E16-1_N (SOP, 16-Leads, Body 4.9x3.89mm, Pitch 0.635mm, IPC Medium Density)
footprint MAXM-E16-1_L (SOP, 16-Leads, Body 4.9x3.89mm, Pitch 0.635mm, IPC High Density)
footprint MAXM-E16-1_M (SOP, 16-Leads, Body 4.9x3.89mm, Pitch 0.635mm, IPC Low Density)
pins: 1 PWM1 (oc) "Fan Driver Output 1. The pullup resistor can be connected to a supply voltage as high as 12V, regardless of the supply voltage. See the PWM Output section for configuration.", 2 TACH1 (in) "Fan Tachometer Input. Accepts logic-level signal from fan’s tachometer output. Can be connected to a supply voltage as high as 12V, regardless of the supply voltage.", 3 ADD0 (in) "SMBus Slave Address Selection", 4 ADD1 (in) "SMBus Slave Address Selection", 5 GND (power) "Ground. Must be connected together for MAX6615.", 6 TH1 (in) "External Thermistor Input 1. Connect a thermistor in series with a fixed resistor between REF and ground.", 7 REF (hiz) "Reference Voltage Output. Provides 1V during measurements. High impedance when not measuring.", 8 TH2 (in) "External Thermistor Input 2. Connect a thermistor in series with a fixed resistor between REF and ground.", 9 ~{FAN_FAIL} (hiz) "Fan-Failure Output. Asserts low when either fan fails. Can be pulled up as high as 5.5V regardless of VCC. High impedance when VCC = 0V.", 10 GND (power) "Ground. Must be connected together for MAX6615.", 11 ~{OT} (hiz) "Overtemperature Output. Active low, open drain. Typically used for system shutdown or clock throttling. Can be pulled up as high as 5.5V regardless of VCC. High impedance when VCC = 0V.", 12 VCC (power) "Power Supply. 3.3V nominal. Bypass with a 0.1uF capacitor to GND.", 13 SDA (io) "SMBus Serial-Data Input/Output. Pull up with a 10k ohm resistor. Can be pulled up as high as 5.5V regardless of VCC. High impedance when VCC = 0V.", 14 SCL (in) "SMBus Serial-Clock Input. Pull up with a 10k ohm resistor. Can be pulled up as high as 5.5V regardless of VCC. High impedance when VCC = 0V.", 15 TACH2 (in) "Fan Tachometer Input. Accepts logic-level signal from fan’s tachometer output. Can be connected to a supply voltage as high as 12V, regardless of the supply voltage.", 16 PWM2 (oc) "Fan Driver Output 2. The pullup resistor can be connected to a supply voltage as high as 12V, regardless of the supply voltage. See the PWM Output section for configuration."

## MAX6615AEE+
designator U?
Dual-Channel Temperature Monitors and Fan-Speed Controller with Thermistor Inputs, -40 to 125 degC, 16-Pin SOP (E16+1), Pb-Free; Generic Part Number: MAX6615; PartNumber: MAX6615AEE+; Fan Cntrl.: PWM; Fan Controller Functions: Fan Failure Detector; Interface: 2-Wire/I2C/SMBus; DatasheetVersion: Rev. 2; PackageVersion: Rev. K, 04/2012; PackageReference: E16+1; PackageDescription: 16-Pin Quarter Small-Outline Package (E16+1), Body 4.90 x 3.89 mm, Pitch 0.635 mm; Supplier 1: Digi-Key; Supplier Part Number 1: MAX6615AEE+-ND; Supplier 2: Mouser; Supplier Part Number 2: 700-MAX6615AEE; Mounting Technology: Surface Mount; Code_JEDEC: MO137; ComponentLink1Description: Manufacturer URL; ComponentLink1URL: http://www.maximintegrated.com/; ComponentLink2Description: Datasheet; ComponentLink2URL: http://datasheets.maximintegrated.com/en/ds/MAX6615-MAX6616.pdf; ComponentLink3Description: Package Specification; ComponentLink3URL: http://pdfserv.maximintegrated.com/package_dwgs/21-0055.PDF
footprint MAXM-E16+1_N (SOP, 16-Leads, Body 4.9x3.89mm, Pitch 0.635mm, IPC Medium Density)
footprint MAXM-E16+1_L (SOP, 16-Leads, Body 4.9x3.89mm, Pitch 0.635mm, IPC High Density)
footprint MAXM-E16+1_M (SOP, 16-Leads, Body 4.9x3.89mm, Pitch 0.635mm, IPC Low Density)
pins: 1 PWM1 (oc) "Fan Driver Output 1. The pullup resistor can be connected to a supply voltage as high as 12V, regardless of the supply voltage. See the PWM Output section for configuration.", 2 TACH1 (in) "Fan Tachometer Input. Accepts logic-level signal from fan’s tachometer output. Can be connected to a supply voltage as high as 12V, regardless of the supply voltage.", 3 ADD0 (in) "SMBus Slave Address Selection", 4 ADD1 (in) "SMBus Slave Address Selection", 5 GND (power) "Ground. Must be connected together for MAX6615.", 6 TH1 (in) "External Thermistor Input 1. Connect a thermistor in series with a fixed resistor between REF and ground.", 7 REF (hiz) "Reference Voltage Output. Provides 1V during measurements. High impedance when not measuring.", 8 TH2 (in) "External Thermistor Input 2. Connect a thermistor in series with a fixed resistor between REF and ground.", 9 ~{FAN_FAIL} (hiz) "Fan-Failure Output. Asserts low when either fan fails. Can be pulled up as high as 5.5V regardless of VCC. High impedance when VCC = 0V.", 10 GND (power) "Ground. Must be connected together for MAX6615.", 11 ~{OT} (hiz) "Overtemperature Output. Active low, open drain. Typically used for system shutdown or clock throttling. Can be pulled up as high as 5.5V regardless of VCC. High impedance when VCC = 0V.", 12 VCC (power) "Power Supply. 3.3V nominal. Bypass with a 0.1uF capacitor to GND.", 13 SDA (io) "SMBus Serial-Data Input/Output. Pull up with a 10k ohm resistor. Can be pulled up as high as 5.5V regardless of VCC. High impedance when VCC = 0V.", 14 SCL (in) "SMBus Serial-Clock Input. Pull up with a 10k ohm resistor. Can be pulled up as high as 5.5V regardless of VCC. High impedance when VCC = 0V.", 15 TACH2 (in) "Fan Tachometer Input. Accepts logic-level signal from fan’s tachometer output. Can be connected to a supply voltage as high as 12V, regardless of the supply voltage.", 16 PWM2 (oc) "Fan Driver Output 2. The pullup resistor can be connected to a supply voltage as high as 12V, regardless of the supply voltage. See the PWM Output section for configuration."

## MAX6615AEE+T
designator U?
Dual-Channel Temperature Monitors and Fan-Speed Controller with Thermistor Inputs, -40 to 125 degC, 16-Pin SOP (E16+1), Pb-Free, Tape and Reel; Generic Part Number: MAX6615; PartNumber: MAX6615AEE+T; Fan Cntrl.: PWM; Fan Controller Functions: Fan Failure Detector; Interface: 2-Wire/I2C/SMBus; DatasheetVersion: Rev. 2; PackageVersion: Rev. K, 04/2012; PackageReference: E16+1; PackageDescription: 16-Pin Quarter Small-Outline Package (E16+1), Body 4.90 x 3.89 mm, Pitch 0.635 mm; Supplier 1: Digi-Key; Supplier Part Number 1: MAX6615AEE+TTR-ND; Supplier 2: Digi-Key; Supplier Part Number 2: MAX6615AEE+TCT-ND; Supplier 3: Digi-Key; Supplier Part Number 3: MAX6615AEE+TDKR-ND; Supplier 4: Mouser; Supplier Part Number 4: 700-MAX6615AEET; Packing: Tape and Reel; Mounting Technology: Surface Mount; Code_JEDEC: MO137; ComponentLink1Description: Manufacturer URL; ComponentLink1URL: http://www.maximintegrated.com/; ComponentLink2Description: Datasheet; ComponentLink2URL: http://datasheets.maximintegrated.com/en/ds/MAX6615-MAX6616.pdf; ComponentLink3Description: Package Specification; ComponentLink3URL: http://pdfserv.maximintegrated.com/package_dwgs/21-0055.PDF
footprint MAXM-E16+1_N (SOP, 16-Leads, Body 4.9x3.89mm, Pitch 0.635mm, IPC Medium Density)
footprint MAXM-E16+1_L (SOP, 16-Leads, Body 4.9x3.89mm, Pitch 0.635mm, IPC High Density)
footprint MAXM-E16+1_M (SOP, 16-Leads, Body 4.9x3.89mm, Pitch 0.635mm, IPC Low Density)
pins: 1 PWM1 (oc) "Fan Driver Output 1. The pullup resistor can be connected to a supply voltage as high as 12V, regardless of the supply voltage. See the PWM Output section for configuration.", 2 TACH1 (in) "Fan Tachometer Input. Accepts logic-level signal from fan’s tachometer output. Can be connected to a supply voltage as high as 12V, regardless of the supply voltage.", 3 ADD0 (in) "SMBus Slave Address Selection", 4 ADD1 (in) "SMBus Slave Address Selection", 5 GND (power) "Ground. Must be connected together for MAX6615.", 6 TH1 (in) "External Thermistor Input 1. Connect a thermistor in series with a fixed resistor between REF and ground.", 7 REF (hiz) "Reference Voltage Output. Provides 1V during measurements. High impedance when not measuring.", 8 TH2 (in) "External Thermistor Input 2. Connect a thermistor in series with a fixed resistor between REF and ground.", 9 ~{FAN_FAIL} (hiz) "Fan-Failure Output. Asserts low when either fan fails. Can be pulled up as high as 5.5V regardless of VCC. High impedance when VCC = 0V.", 10 GND (power) "Ground. Must be connected together for MAX6615.", 11 ~{OT} (hiz) "Overtemperature Output. Active low, open drain. Typically used for system shutdown or clock throttling. Can be pulled up as high as 5.5V regardless of VCC. High impedance when VCC = 0V.", 12 VCC (power) "Power Supply. 3.3V nominal. Bypass with a 0.1uF capacitor to GND.", 13 SDA (io) "SMBus Serial-Data Input/Output. Pull up with a 10k ohm resistor. Can be pulled up as high as 5.5V regardless of VCC. High impedance when VCC = 0V.", 14 SCL (in) "SMBus Serial-Clock Input. Pull up with a 10k ohm resistor. Can be pulled up as high as 5.5V regardless of VCC. High impedance when VCC = 0V.", 15 TACH2 (in) "Fan Tachometer Input. Accepts logic-level signal from fan’s tachometer output. Can be connected to a supply voltage as high as 12V, regardless of the supply voltage.", 16 PWM2 (oc) "Fan Driver Output 2. The pullup resistor can be connected to a supply voltage as high as 12V, regardless of the supply voltage. See the PWM Output section for configuration."

## MAX6615AEE-T
designator U?
Dual-Channel Temperature Monitors and Fan-Speed Controller with Thermistor Inputs, -40 to 125 degC, 16-Pin SOP (E16-1), Tape and Reel; Generic Part Number: MAX6615; PartNumber: MAX6615AEE-T; Fan Cntrl.: PWM; Fan Controller Functions: Fan Failure Detector; Interface: 2-Wire/I2C/SMBus; DatasheetVersion: Rev. 2; PackageVersion: Rev. K, 04/2012; PackageReference: E16-1; PackageDescription: 16-Pin Quarter Small-Outline Package (E16-1), Body 4.90 x 3.89 mm, Pitch 0.635 mm; Supplier 1: Mouser; Supplier Part Number 1: N/A; Packing: Tape and Reel; Mounting Technology: Surface Mount; Code_JEDEC: MO137; ComponentLink1Description: Manufacturer URL; ComponentLink1URL: http://www.maximintegrated.com/; ComponentLink2Description: Datasheet; ComponentLink2URL: http://datasheets.maximintegrated.com/en/ds/MAX6615-MAX6616.pdf; ComponentLink3Description: Package Specification; ComponentLink3URL: http://pdfserv.maximintegrated.com/package_dwgs/21-0055.PDF
footprint MAXM-E16-1_N (SOP, 16-Leads, Body 4.9x3.89mm, Pitch 0.635mm, IPC Medium Density)
footprint MAXM-E16-1_L (SOP, 16-Leads, Body 4.9x3.89mm, Pitch 0.635mm, IPC High Density)
footprint MAXM-E16-1_M (SOP, 16-Leads, Body 4.9x3.89mm, Pitch 0.635mm, IPC Low Density)
pins: 1 PWM1 (oc) "Fan Driver Output 1. The pullup resistor can be connected to a supply voltage as high as 12V, regardless of the supply voltage. See the PWM Output section for configuration.", 2 TACH1 (in) "Fan Tachometer Input. Accepts logic-level signal from fan’s tachometer output. Can be connected to a supply voltage as high as 12V, regardless of the supply voltage.", 3 ADD0 (in) "SMBus Slave Address Selection", 4 ADD1 (in) "SMBus Slave Address Selection", 5 GND (power) "Ground. Must be connected together for MAX6615.", 6 TH1 (in) "External Thermistor Input 1. Connect a thermistor in series with a fixed resistor between REF and ground.", 7 REF (hiz) "Reference Voltage Output. Provides 1V during measurements. High impedance when not measuring.", 8 TH2 (in) "External Thermistor Input 2. Connect a thermistor in series with a fixed resistor between REF and ground.", 9 ~{FAN_FAIL} (hiz) "Fan-Failure Output. Asserts low when either fan fails. Can be pulled up as high as 5.5V regardless of VCC. High impedance when VCC = 0V.", 10 GND (power) "Ground. Must be connected together for MAX6615.", 11 ~{OT} (hiz) "Overtemperature Output. Active low, open drain. Typically used for system shutdown or clock throttling. Can be pulled up as high as 5.5V regardless of VCC. High impedance when VCC = 0V.", 12 VCC (power) "Power Supply. 3.3V nominal. Bypass with a 0.1uF capacitor to GND.", 13 SDA (io) "SMBus Serial-Data Input/Output. Pull up with a 10k ohm resistor. Can be pulled up as high as 5.5V regardless of VCC. High impedance when VCC = 0V.", 14 SCL (in) "SMBus Serial-Clock Input. Pull up with a 10k ohm resistor. Can be pulled up as high as 5.5V regardless of VCC. High impedance when VCC = 0V.", 15 TACH2 (in) "Fan Tachometer Input. Accepts logic-level signal from fan’s tachometer output. Can be connected to a supply voltage as high as 12V, regardless of the supply voltage.", 16 PWM2 (oc) "Fan Driver Output 2. The pullup resistor can be connected to a supply voltage as high as 12V, regardless of the supply voltage. See the PWM Output section for configuration."

## MAX6616AEG
designator U?
Dual-Channel Temperature Monitors and Fan-Speed Controller with Thermistor Inputs and 6 GPIOs, -40 to 125 degC, 24-Pin SOP (E24-1); Generic Part Number: MAX6616; PartNumber: MAX6616AEG; Fan Cntrl.: PWM; Fan Controller Functions: Fan Failure Detector; Interface: 2-Wire/I2C/SMBus; DatasheetVersion: Rev. 2; PackageVersion: Rev. K, 04/2012; PackageReference: E24-1; PackageDescription: 24-Pin Quarter Small-Outline Package, Body 3.9 x 8.65 mm, Pitch 0.635 mm; Supplier 1: Digi-Key; Supplier Part Number 1: MAX6616AEG-ND; Supplier 2: Mouser; Supplier Part Number 2: 700-MAX6616AEG-; Mounting Technology: Surface Mount; Code_JEDEC: MO-137; ComponentLink1Description: Manufacturer URL; ComponentLink1URL: http://www.maximintegrated.com/; ComponentLink2Description: Datasheet; ComponentLink2URL: http://datasheets.maximintegrated.com/en/ds/MAX6615-MAX6616.pdf; ComponentLink3Description: Package Specification; ComponentLink3URL: http://pdfserv.maximintegrated.com/package_dwgs/21-0055.PDF
footprint MAXM-E24-1_N (SOP, 24-Leads, Body 8.65x3.9mm, Pitch 0.635mm, IPC Medium Density)
footprint MAXM-E24-1_L (SOP, 24-Leads, Body 8.65x3.9mm, Pitch 0.635mm, IPC High Density)
footprint MAXM-E24-1_M (SOP, 24-Leads, Body 8.65x3.9mm, Pitch 0.635mm, IPC Low Density)
pins: 1 GPIO2 (io) "Active-Low, Open-Drain GPIOs. Can be pulled up to 5.5V regardless of VCC.", 2 GPIO1 (io) "Active-Low, Open-Drain GPIOs. Can be pulled up to 5.5V regardless of VCC.", 3 PWM1 (oc) "Fan Driver Output 1. The pullup resistor can be connected to a supply voltage as high as 12V, regardless of the supply voltage. See the PWM Output section for configuration.", 4 TACH1 (in) "Fan Tachometer Input. Accepts logic-level signal from fan’s tachometer output. Can be connected to a supply voltage as high as 12V, regardless of the supply voltage.", 5 GPIO0 (io) "Active-Low, Open-Drain GPIOs. Can be pulled up to 5.5V regardless of VCC.", 6 ADD0 (in) "SMBus Slave Address Selection", 7 ADD1 (in) "SMBus Slave Address Selection", 8 GND (power) "Ground.", 9 TH1 (in) "External Thermistor Input 1. Connect a thermistor in series with a fixed resistor between REF and ground.", 10 NC "No Connection", 11 REF (hiz) "Reference Voltage Output. Provides 1V during measurements. High impedance when not measuring.", 12 TH2 (in) "External Thermistor Input 2. Connect a thermistor in series with a fixed resistor between REF and ground.", 13 ~{FAN_FAIL} (hiz) "Fan-Failure Output. Asserts low when either fan fails. Can be pulled up as high as 5.5V regardless of VCC. High impedance when VCC = 0V.", 14 PRESET (in) "Connect to GND or VCC to set POR state of the GPIO0.", 15 NC "No Connection", 16 ~{OT} (hiz) "Overtemperature Output. Active low, open drain. Typically used for system shutdown or clock throttling. Can be pulled up as high as 5.5V regardless of VCC. High impedance when VCC = 0V.", 17 VCC (power) "Power Supply. 3.3V nominal. Bypass with a 0.1uF capacitor to GND.", 18 SDA (io) "SMBus Serial-Data Input/Output. Pull up with a 10k ohm resistor. Can be pulled up as high as 5.5V regardless of VCC. High impedance when VCC = 0V.", 19 SCL (in) "SMBus Serial-Clock Input. Pull up with a 10k ohm resistor. Can be pulled up as high as 5.5V regardless of VCC. High impedance when VCC = 0V.", 20 GPIO5 (io) "Active-Low, Open-Drain GPIOs. Can be pulled up to 5.5V regardless of VCC.", 21 TACH2 (in) "Fan Tachometer Input. Accepts logic-level signal from fan’s tachometer output. Can be connected to a supply voltage as high as 12V, regardless of the supply voltage.", 22 PWM2 (oc) "Fan Driver Output 2. The pullup resistor can be connected to a supply voltage as high as 12V, regardless of the supply voltage. See the PWM Output section for configuration.", 23 GPIO4 (io) "Active-Low, Open-Drain GPIOs. Can be pulled up to 5.5V regardless of VCC.", 24 GPIO3 (io) "Active-Low, Open-Drain GPIOs. Can be pulled up to 5.5V regardless of VCC."